# Altium schematic symbol library SCH - POWER - SWITCHMODE - TI TPS5124_DBT_30.SchLib: 1 symbol
Pins are listed as number, name and electrical type; pins without a type are passive.

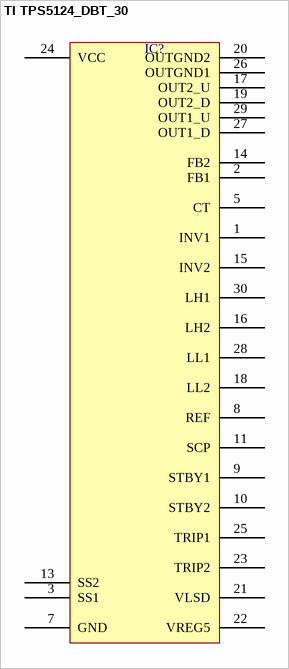
[diagram p0: symbol TI TPS5124_DBT_30]

## TI TPS5124_DBT_30
designator IC?  (value not drawn)
pins: 1 INV1, 2 FB1, 3 SS1, 5 CT, 7 GND, 8 REF, 9 STBY1, 10 STBY2, 11 SCP, 13 SS2, 14 FB2, 15 INV2, 16 LH2, 17 OUT2_U, 18 LL2, 19 OUT2_D, 20 OUTGND2, 21 VLSD, 22 VREG5, 23 TRIP2, 24 VCC, 25 TRIP1, 26 OUTGND1, 27 OUT1_D, 28 LL1, 29 OUT1_U, 30 LH1